# EAGLE library part PCA9534 (library micro-texas-instruments)
8-bit I2C-bus and SMBus low power I/O port with interrupt Source: www.nxp.com .. PCA9534_3.pdf
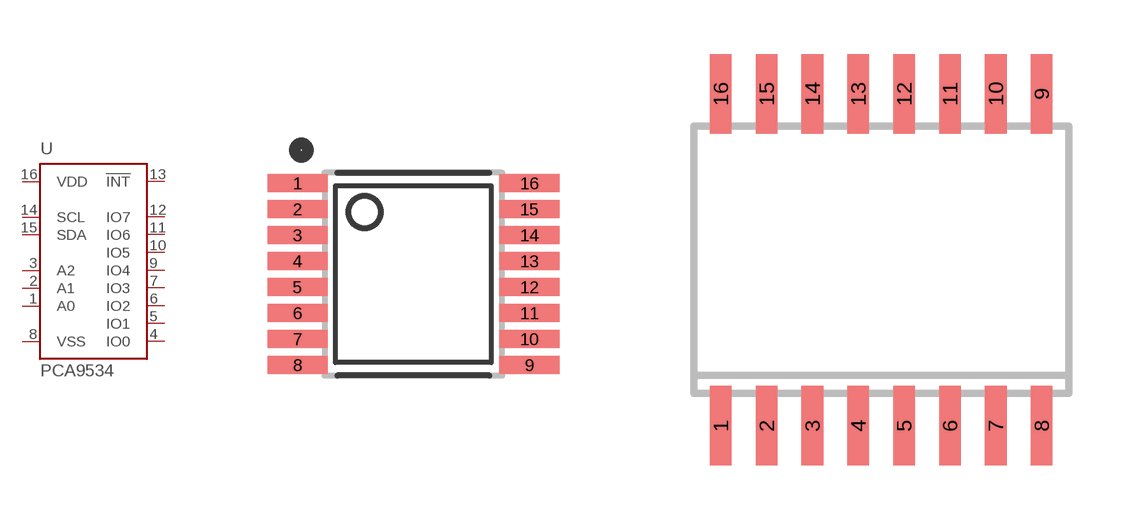
[diagram p4: symbol with the pads of TSSOP16; footprints TSSOP16, SO16W]

Designator prefix U

## PCA9534PW (MPN: PCA9534PW; OC_FARNELL: 1408285; OC_NEWARK: 18M7516)  [TSSOP16]
1  A0  in
2  A1  in
3  A2  in
4  IO0
5  IO1
6  IO2
7  IO3
8  VSS  pwr
9  IO4
10  IO5
11  IO6
12  IO7
13  !INT  oc
14  SCL  in
15  SDA
16  VDD  pwr

## PCA9534D (MPN: PCA9534DB; OC_FARNELL: 1408284; OC_NEWARK: 18M7513)  [SO16W]
Pads as for TSSOP16

## PCA9534BS (MPN: PCA9534BS,118; OC_FARNELL: unknown; OC_NEWARK: 70R6525)  [HVQFN16(SOT629-1)]
1  A2  in
2  IO0
3  IO1
4  IO2
5  IO3
6  VSS  pwr
7  IO4
8  IO5
9  IO6
10  IO7
11  !INT  oc
12  SCL  in
13  SDA
14  VDD  pwr
15  A0  in
16  A1  in

## PCA9534BS3 (MPN: PCA9534BS3,118; OC_FARNELL: unknown; OC_NEWARK: 70R6526)  [HVQFN16_3X3]
Pads as for HVQFN16(SOT629-1)

## Footprint TSSOP16 (pad centres in mm)
TSSOP16: plastic thin shrink small outline package; 16 leads; body width 4.4 mm SOT403-1 / PW0016A Source: PCA9534_3.pdf
smd 1.5 x 0.45: 1 -2.9,2.275; 2 -2.9,1.625; 3 -2.9,0.975; 4 -2.9,0.325; 5 -2.9,-0.325; 6 -2.9,-0.975; 7 -2.9,-1.625; 8 -2.9,-2.275; 9 2.9,-2.275; 10 2.9,-1.625; 11 2.9,-0.975; 12 2.9,-0.325; 13 2.9,0.325; 14 2.9,0.975; 15 2.9,1.625; 16 2.9,2.275

## Footprint SO16W (pad centres in mm)
SMALL OUTLINE INTEGRATED CIRCUIT wide body 7.5 mm/JEDEC MS-013AA
smd 0.6 x 2.2: 1 -4.445,-4.6; 2 -3.175,-4.6; 3 -1.905,-4.6; 4 -0.635,-4.6; 5 0.635,-4.6; 6 1.905,-4.6; 7 3.175,-4.6; 8 4.445,-4.6; 9 4.445,4.6; 10 3.175,4.6; 11 1.905,4.6; 12 0.635,4.6; 13 -0.635,4.6; 14 -1.905,4.6; 15 -3.175,4.6; 16 -4.445,4.6

## Footprint HVQFN16(SOT629-1) (pad centres in mm)
HVQFN16: plastic thermal enhanced very thin quad flat package; no leads; 16 terminals; body 4 x 4 x 0.85 mm SOT629-1 SOURCE: https://www.nxp.com/docs/en/package-information/SOT629-1.pdf
smd 1.075 x 0.355: 1 -1.863,0.975; 2 -1.863,0.325; 3 -1.863,-0.325; 4 -1.863,-0.975; 9 1.863,-0.975; 10 1.863,-0.325; 11 1.863,0.325; 12 1.863,0.975
smd 0.355 x 1.075: 5 -0.975,-1.863; 6 -0.325,-1.863; 7 0.325,-1.863; 8 0.975,-1.863; 13 0.975,1.863; 14 0.325,1.863; 15 -0.325,1.863; 16 -0.975,1.863
smd 2.1 x 2.1: TH 0,0

## Footprint HVQFN16_3X3 (pad centres in mm)
HVQFN16: plastic thermal enhanced very thin quad flat package; no leads; 16 terminals; body 3 x 3 x 0.85 mm SOT758-1 Source: PCA9534_3.pdf
smd 0.5 x 0.3: 1 -1.25,0.75; 2 -1.25,0.25; 3 -1.25,-0.25; 4 -1.25,-0.75; 9 1.25,-0.75; 10 1.25,-0.25; 11 1.25,0.25; 12 1.25,0.75
smd 0.3 x 0.5: 5 -0.75,-1.25; 6 -0.25,-1.25; 7 0.25,-1.25; 8 0.75,-1.25; 13 0.75,1.25; 14 0.25,1.25; 15 -0.25,1.25; 16 -0.75,1.25
smd 1.75 x 1.75: TH 0,0